# EAGLE library part EMMY-W163 (library mbed-HDK-MF-UBLOX)
EMMY-W163: Host-based multiradio module with Wi-Fi, Bluetooth and NFC u-blox.com
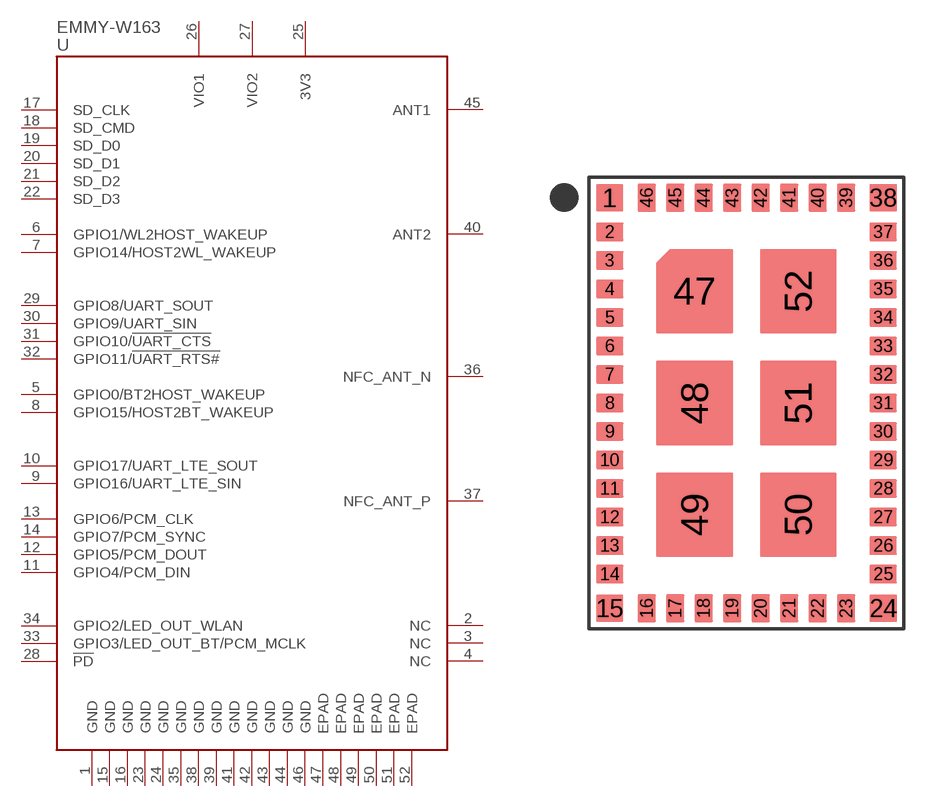
[diagram p4: symbol with the pads of EMMI-52; footprint EMMI-52]

Designator prefix U

## EMMY-W163  [EMMI-52]
1  GND  pwr
2  NC  nc
3  NC  nc
4  NC  nc
5  GPIO0/BT2HOST_WAKEUP  out
6  GPIO1/WL2HOST_WAKEUP  out
7  GPIO14/HOST2WL_WAKEUP  in
8  GPIO15/HOST2BT_WAKEUP  in
9  GPIO16/UART_LTE_SIN  in
10  GPIO17/UART_LTE_SOUT  out
11  GPIO4/PCM_DIN  in
12  GPIO5/PCM_DOUT  out
13  GPIO6/PCM_CLK
14  GPIO7/PCM_SYNC
15  GND  pwr
16  GND  pwr
17  SD_CLK  in
18  SD_CMD
19  SD_D0
20  SD_D1
21  SD_D2
22  SD_D3
23  GND  pwr
24  GND  pwr
25  3V3  pwr
26  VIO1  pwr
27  VIO2  pwr
28  !PD  in
29  GPIO8/UART_SOUT  out
30  GPIO9/UART_SIN  in
31  GPIO10/!UART_CTS  out
32  GPIO11/!UART_RTS#  in
33  GPIO3/LED_OUT_BT/PCM_MCLK
34  GPIO2/LED_OUT_WLAN
35  GND  pwr
36  NFC_ANT_N
37  NFC_ANT_P
38  GND  pwr
39  GND  pwr
40  ANT2
41  GND  pwr
42  GND  pwr
43  GND  pwr
44  GND  pwr
45  ANT1
46  GND  pwr
47  EPAD  pwr
48  EPAD  pwr
49  EPAD  pwr
50  EPAD  pwr
51  EPAD  pwr
52  EPAD  pwr

## Footprint EMMI-52 (pad centres in mm)
EMMY-W1: LGA-52 u-blox.com
smd 1.2 x 1.2: 1 -6,9; 15 -6,-9; 24 6,-9; 38 6,9
smd 1.2 x 0.8: 2 -6,7.5; 3 -6,6.25; 4 -6,5; 5 -6,3.75; 6 -6,2.5; 7 -6,1.25; 8 -6,0; 9 -6,-1.25; 10 -6,-2.5; 11 -6,-3.75; 12 -6,-5; 13 -6,-6.25; 14 -6,-7.5; 25 6,-7.5; 26 6,-6.25; 27 6,-5; 28 6,-3.75; 29 6,-2.5; 30 6,-1.25; 31 6,0; 32 6,1.25; 33 6,2.5; 34 6,3.75; 35 6,5; 36 6,6.25; 37 6,7.5
smd 0.8 x 1.2: 16 -4.375,-9; 17 -3.125,-9; 18 -1.875,-9; 19 -0.625,-9; 20 0.625,-9; 21 1.875,-9; 22 3.125,-9; 23 4.375,-9; 39 4.375,9; 40 3.125,9; 41 1.875,9; 42 0.625,9; 43 -0.625,9; 44 -1.875,9; 45 -3.125,9; 46 -4.375,9
smd 3.35 x 2.4: 47 -2.275,4.9
smd 3.35 x 3.7: 48 -2.275,0; 49 -2.275,-4.9; 50 2.275,-4.9; 51 2.275,0; 52 2.275,4.9